# Altium schematic symbol library LMS8117ADT-3.3.SchLib: 1 symbol
Pins are listed as number, name and electrical type; pins without a type are passive.

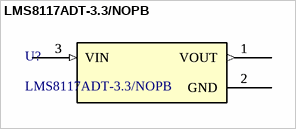
[diagram p0: symbol LMS8117ADT-3.3/NOPB]

## LMS8117ADT-3.3/NOPB
designator U?
No Description Available; PartNumber: LMS8117ADT-33; Comp: TypeLDO; Vendor: NationalSemiconductor; Symbol: NameLMS8117ADT-33; Library: ReferenceLMS8117ADT; Type: DEV; Version: 1; base_pn: LMS8117A; Pin: Count3; Copyright: Copyright (C) 2021 Accelerated Designs. All rights reserved; RefDes: RefDes
footprint TD03B
pins: 1 VOUT (out), 1 VOUT (out), 2 GND, 2 GND, 3 VIN (in), 3 VIN (in)